# Altium schematic symbol library AT24C256C-XHL-T.SchLib: 1 symbol
Pins are listed as number, name and electrical type; pins without a type are passive.

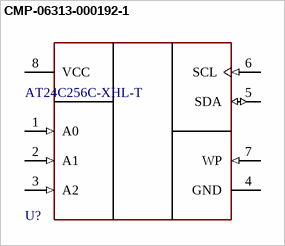
[diagram p0: symbol CMP-06313-000192-1]

## CMP-06313-000192-1
designator U?, comment AT24C256C-XHL-T
IC EEPROM 256KBIT I2C 8TSSOP; Density: 256Kb; Nominal Supply Current: 3mA; Access Time-Max: 550ns; Organization: 32KX8; Write Protection: YES; Max Frequency: 1MHz; Max Supply Voltage: 5.5V; Min Supply Voltage: 1.7V; Reach SVHC Compliant: Yes; Radiation Hardening: No; Lead Free: Lead Free; Memory Type: EEPROM; RoHS Compliant: Yes; Package Quantity: 5000; Interface: I2C; Min Operating Temperature: -40°C; Access Time: 550ns; Number of Pins: 8; Packaging: Tape and Reel; Series: -; Frequency: 1MHz; Memory Size: 256Kb; Mount: Surface Mount; Case/Package: TSSOP; Supply Current: 3mA; Max Operating Temperature: 85°C
footprint 8-SOIC (pitch 1.27 mm)
pins: 1 A0 (in), 2 A1 (in), 3 A2 (in), 4 GND (power), 5 SDA (io), 6 SCL (in), 7 WP (in), 8 VCC (power)